# Altium footprint library M0E100P0.PcbLib: 1 footprints
Each footprint in its own frame and in the unit in brackets; x right, y up, seen from the top. Pads: shape width x height; smd on the part's side, far side on the other; paste and mask are expansions set on the pad; w line width, h text height; cw(c..) or ccw(c..) is an arc to the next point about the centre after c.
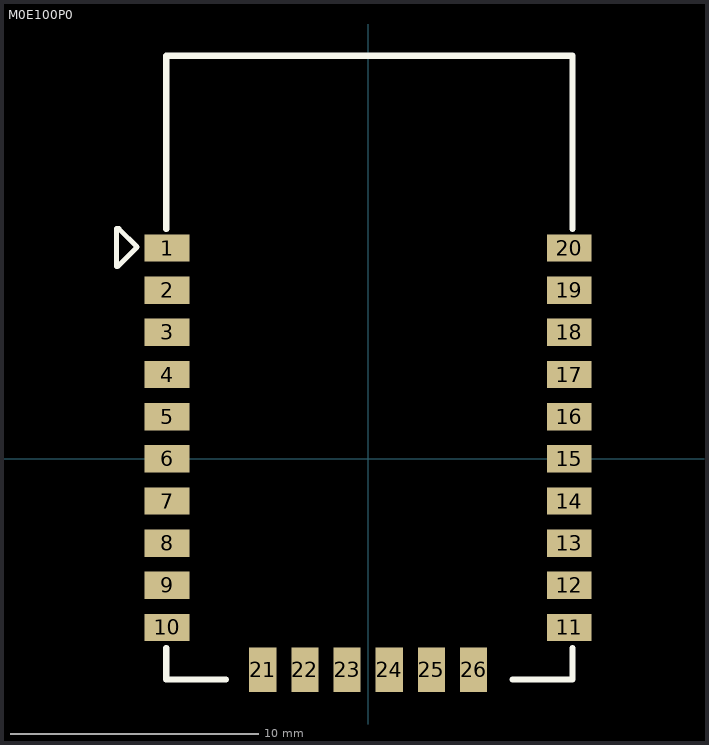
[diagram p0: the footprint, top view; thin cyan lines are the x and y axes]

## M0E100P0 [mm] "M0E100P0"
pads (26):
  rect 1.8x1.1 smd: 1(-8.11,8.504) 2(-8.11,6.804) 3(-8.11,5.104) 4(-8.11,3.404) 5(-8.11,1.704) 6(-8.11,0.004) 7(-8.11,-1.696) 8(-8.11,-3.396) 9(-8.11,-5.096) 10(-8.11,-6.796) 11(8.11,-6.796) 12(8.11,-5.096) 13(8.11,-3.396) 14(8.11,-1.696) 15(8.11,0.004) 16(8.11,1.704) 17(8.11,3.404) 18(8.11,5.104) 19(8.11,6.804) 20(8.11,8.504)
  rect 1.1x1.8 smd: 21(-4.25,-8.504) 22(-2.55,-8.504) 23(-0.85,-8.504) 24(0.85,-8.504) 25(2.55,-8.504) 26(4.25,-8.504)
Top Overlay:
  lines w0.2: -10.151,7.76 -10.151,9.284 -10.049,9.284 -9.313,8.548 -10.1,7.76 -10.151,7.76
  lines w0.254: -8.144,-7.622 -8.144,-8.892 -5.731,-8.892 ; -8.144,9.269 -8.144,16.254 7.985,16.254 ; 5.826,-8.892 8.239,-8.892 8.239,-7.622 ; 7.477,16.254 8.239,16.254 8.239,9.269